# Altium integrated library Infineon_Power_Gate_Driver.IntLib: 27 symbols (part 1 of 2)
Pins are listed as number, name and electrical type; pins without a type are passive.

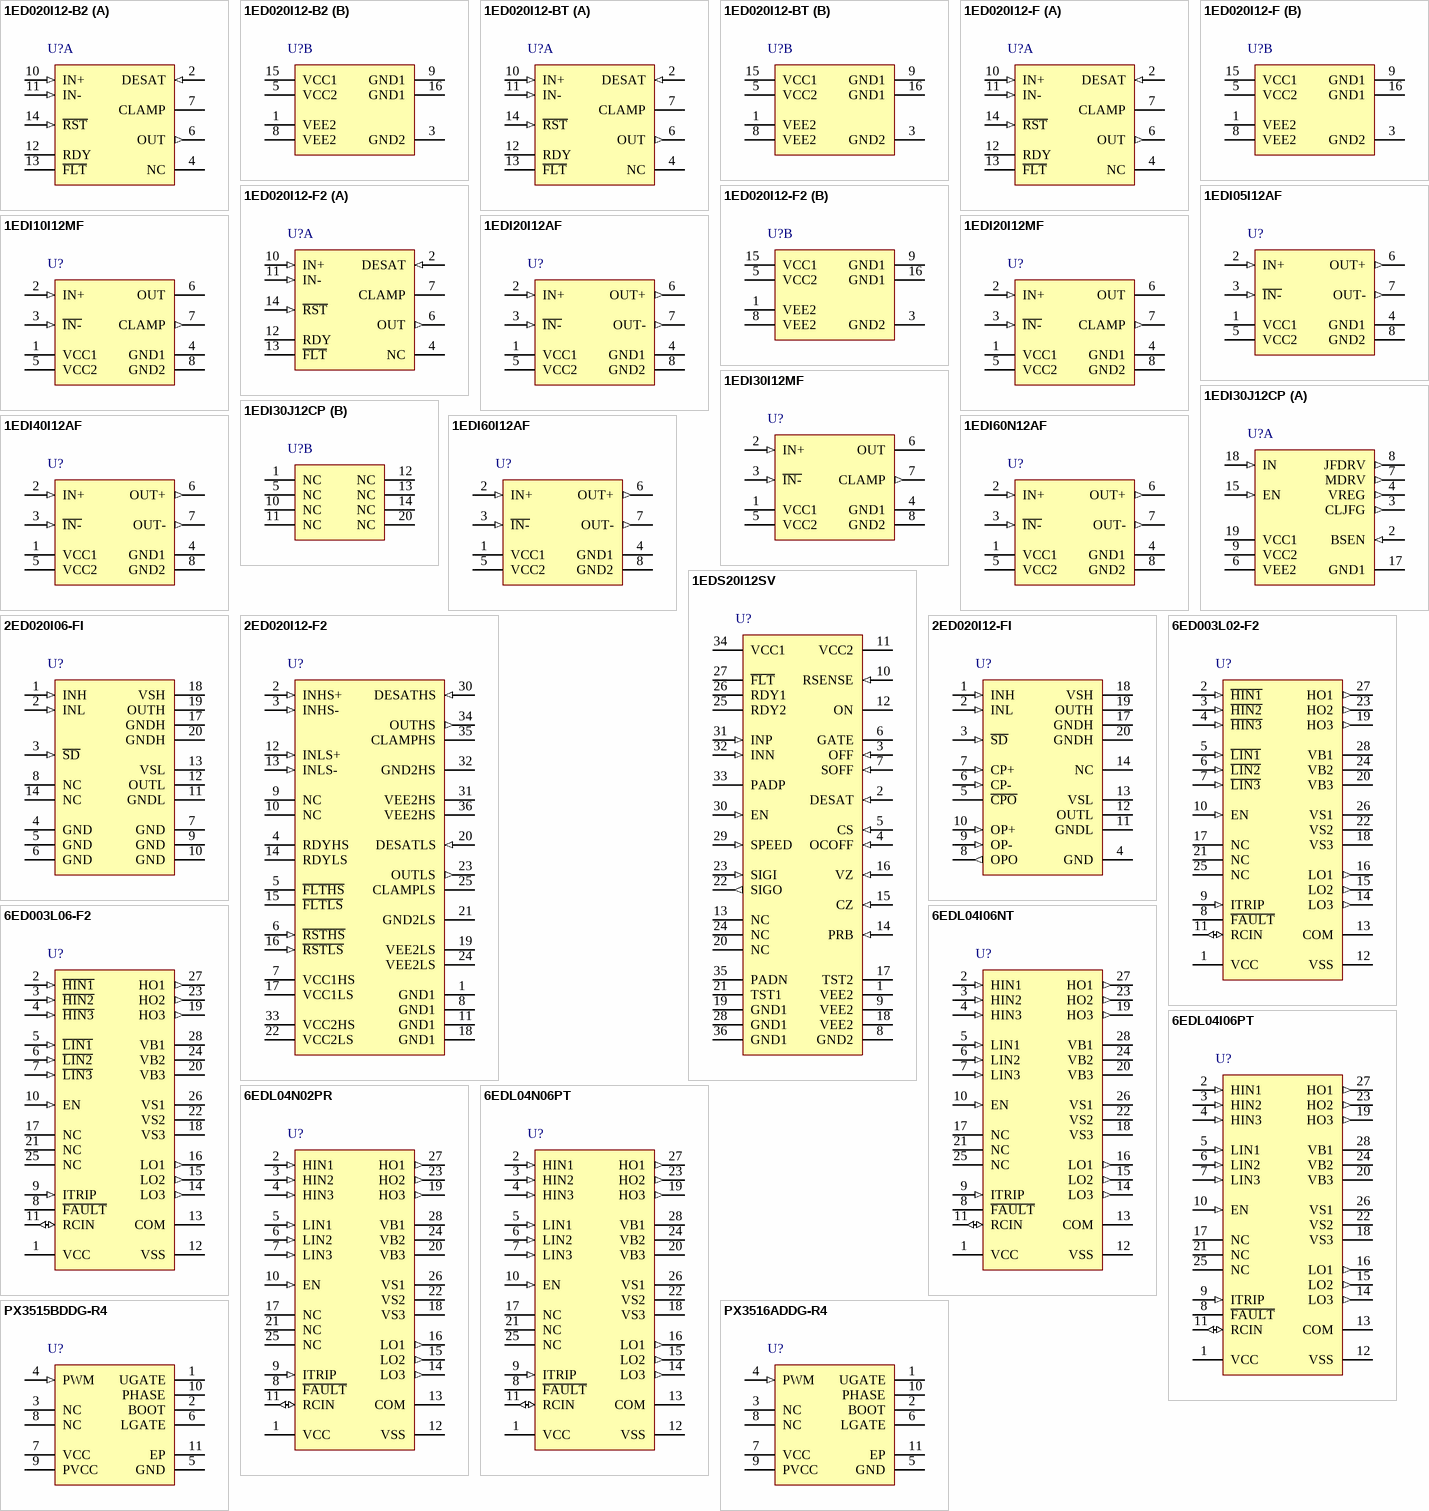
[diagram p0: symbols 1ED020I12-B2 to PX3516ADDG-R4]

## 1ED020I12-B2
designator U?
Single IGBT Driver IC, PG-DSO-16-15, Reel, Green; Manufacturer: Infineon; PartNumber: 1ED020I12-B2; Fault Reporting: DESAT; Green: TRUE; Shutdown/Enable: /RST; Tj (max): 150 degC; Turn On Propagation Delay (max): 195 ns; UVLO_ON_max: 12.6 V; DatasheetVersion: Rev. 2.0; PackageVersion: Rev. 02, 07/2012; PackageReference: PG-DSO-16-15; PackageDescription: 16-Pin Plastic (Green) Dual Small Outline Package, 10.34 x 7.505 mm Body, 1.27 mm Pitch; Supplier 1: Mouser; Supplier Part Number 1: 641-1ED020I12-B2; Halogen-free: TRUE; Topology: Single; Mounting Technology: Surface Mount; ComponentLink1Description: Manufacturer URL; ComponentLink1URL: http://www.infineon.com/; ComponentLink2Description: Datasheet; ComponentLink2URL: http://www.infineon.com/dgdl/1ED020I12-B2_DS_rev2+0.pdf?folderId=db3a30432b16d655012b33fafdac11e2&fileId=db3a304333227b5e013344bf16f84ca6; ComponentLink3Description: Package Specification; ComponentLink3URL: http://www.infineon.com/dgdl/1ED020I12-B2_DS_rev2+0.pdf?folderId=db3a30432b16d655012b33fafdac11e2&fileId=db3a304333227b5e013344bf16f84ca6
footprint INF-PG-DSO-16-15_A_N (SOP, 16-Leads, Body 10.34x7.505mm, Pitch 1.27mm, IPC Medium Density)
footprint INF-PG-DSO-16-15_A_L (SOP, 16-Leads, Body 10.34x7.505mm, Pitch 1.27mm, IPC High Density)
footprint INF-PG-DSO-16-15_A_M (SOP, 16-Leads, Body 10.34x7.505mm, Pitch 1.27mm, IPC Low Density)
part A pins: 2 DESAT (in) "Desaturation protection", 4 NC "Not connected", 6 OUT (out) "Driver output", 7 CLAMP "Miller clamping", 10 IN+ (in) "Non inverted driver input", 11 IN- (in) "Inverted driver input", 12 RDY (oc) "Ready output", 13 ~{FLT} (oc) "Fault output, low active", 14 ~{RST} (in) "Reset input, low active"
part B pins: 1 VEE2 (power) "Negative power supply output side", 3 GND2 (power) "Signal ground output side", 5 VCC2 (power) "Positive power supply output side", 8 VEE2 (power) "Negative power supply output side", 9 GND1 (power) "Ground input side", 15 VCC1 (power) "Positive power supply input side", 16 GND1 (power) "Ground input side"

## 1ED020I12-BT
designator U?
Single IGBT Driver IC, PG-DSO-16-15, Reel, Green; Manufacturer: Infineon; PartNumber: 1ED020I12-BT; Fault Reporting: DESAT; Green: TRUE; Shutdown/Enable: /RST; Tj (max): 150 degC; Turn On Propagation Delay (max): 2,000 ns; UVLO_ON_max: 12.6 V; DatasheetVersion: Rev. 2.0; PackageVersion: Rev. 02, 07/2012; PackageReference: PG-DSO-16-15; PackageDescription: 16-Pin Plastic (Green) Dual Small Outline Package, 10.34 x 7.505 mm Body, 1.27 mm Pitch; Supplier 1: Mouser; Supplier Part Number 1: 641-1ED020I12-BT; Halogen-free: TRUE; Topology: Single; Mounting Technology: Surface Mount; ComponentLink1Description: Manufacturer URL; ComponentLink1URL: http://www.infineon.com/; ComponentLink2Description: Datasheet; ComponentLink2URL: http://www.infineon.com/dgdl/1ED020I12-BT_DS_rev2+0.pdf?folderId=db3a30432b16d655012b33fafdac11e2&fileId=db3a304333227b5e013344c2ff924cbf; ComponentLink3Description: Package Specification; ComponentLink3URL: http://www.infineon.com/dgdl/1ED020I12-B2_DS_rev2+0.pdf?folderId=db3a30432b16d655012b33fafdac11e2&fileId=db3a304333227b5e013344bf16f84ca6
footprint INF-PG-DSO-16-15_A_N (SOP, 16-Leads, Body 10.34x7.505mm, Pitch 1.27mm, IPC Medium Density)
footprint INF-PG-DSO-16-15_A_L (SOP, 16-Leads, Body 10.34x7.505mm, Pitch 1.27mm, IPC High Density)
footprint INF-PG-DSO-16-15_A_M (SOP, 16-Leads, Body 10.34x7.505mm, Pitch 1.27mm, IPC Low Density)
part A pins: 2 DESAT (in) "Desaturation protection", 4 NC "Not connected", 6 OUT (out) "Driver output", 7 CLAMP "Miller clamping", 10 IN+ (in) "Non inverted driver input", 11 IN- (in) "Inverted driver input", 12 RDY (oc) "Ready output", 13 ~{FLT} (oc) "Fault output, low active", 14 ~{RST} (in) "Reset input, low active"
part B pins: 1 VEE2 (power) "Negative power supply output side", 3 GND2 (power) "Signal ground output side", 5 VCC2 (power) "Positive power supply output side", 8 VEE2 (power) "Negative power supply output side", 9 GND1 (power) "Ground input side", 15 VCC1 (power) "Positive power supply input side", 16 GND1 (power) "Ground input side"

## 1ED020I12-F
designator U?
Single IGBT Driver IC, PG-DSO-16-15, Reel, Green; Manufacturer: Infineon; PartNumber: 1ED020I12-F; Fault Reporting: DESAT; Green: TRUE; Shutdown/Enable: /RST; Tj (max): 150 degC; Turn On Propagation Delay (max): 205 ns; UVLO_ON_max: 12.6 V; DatasheetVersion: Rev. 2.3; PackageVersion: Rev. 02, 07/2012; PackageReference: PG-DSO-16-15; PackageDescription: 16-Pin Plastic (Green) Dual Small Outline Package, 10.34 x 7.505 mm Body, 1.27 mm Pitch; Halogen-free: TRUE; Topology: Single; Mounting Technology: Surface Mount; ComponentLink1Description: Manufacturer URL; ComponentLink1URL: http://www.infineon.com/; ComponentLink2Description: Datasheet; ComponentLink2URL: http://www.infineon.com/dgdl/Datasheet_1ED020I12-F_V2+3.pdf?folderId=db3a30432b16d655012b33fafdac11e2&fileId=db3a30433afc7e3e013b2c689d235c77; ComponentLink3Description: Package Specification; ComponentLink3URL: http://www.infineon.com/dgdl/1ED020I12-B2_DS_rev2+0.pdf?folderId=db3a30432b16d655012b33fafdac11e2&fileId=db3a304333227b5e013344bf16f84ca6
footprint INF-PG-DSO-16-15_A_N (SOP, 16-Leads, Body 10.34x7.505mm, Pitch 1.27mm, IPC Medium Density)
footprint INF-PG-DSO-16-15_A_L (SOP, 16-Leads, Body 10.34x7.505mm, Pitch 1.27mm, IPC High Density)
footprint INF-PG-DSO-16-15_A_M (SOP, 16-Leads, Body 10.34x7.505mm, Pitch 1.27mm, IPC Low Density)
part A pins: 2 DESAT (in) "Desaturation protection", 4 NC "Not connected", 6 OUT (out) "Driver output", 7 CLAMP "Miller clamping", 10 IN+ (in) "Non inverted driver input", 11 IN- (in) "Inverted driver input", 12 RDY (oc) "Ready output", 13 ~{FLT} (oc) "Fault output, low active", 14 ~{RST} (in) "Reset input, low active"
part B pins: 1 VEE2 (power) "Negative power supply output side", 3 GND2 (power) "Signal ground output side", 5 VCC2 (power) "Positive power supply output side", 8 VEE2 (power) "Negative power supply output side", 9 GND1 (power) "Ground input side", 15 VCC1 (power) "Positive power supply input side", 16 GND1 (power) "Ground input side"

## 1ED020I12-F2
designator U?
Single IGBT Driver IC, PG-DSO-16-15, Reel, Green; Manufacturer: Infineon; PartNumber: 1ED020I12-F2; Fault Reporting: DESAT; Green: TRUE; Shutdown/Enable: /RST; Tj (max): 150 degC; Turn On Propagation Delay (max): 195 ns; UVLO_ON_max: 12.6 V; DatasheetVersion: Rev. 2.0; PackageReference: PG-DSO-16-15; PackageDescription: 16-Pin Plastic (Green) Dual Small Outline Package, 10.34 x 7.505 mm Body, 1.27 mm Pitch; Supplier 1: Mouser; Supplier Part Number 1: 641-1ED020I12-F2; Halogen-free: TRUE; Topology: Single; Mounting Technology: Surface Mount; ComponentLink1Description: Manufacturer URL; ComponentLink1URL: http://www.infineon.com/; ComponentLink2Description: Datasheet; ComponentLink2URL: http://www.infineon.com/dgdl/Datasheet_1ED020I12-F2_V2_final.pdf?folderId=db3a30432b16d655012b33fafdac11e2&fileId=db3a304330f68606013122ce5f3649cb; ComponentLink3Description: Package Specification; ComponentLink3URL: http://www.infineon.com/cms/packages/SMD_-_Surface_Mounted_Devices/P-PG-DSO/P-PG-DSO-16-04x_-15.html?__locale=en
footprint INF-PG-DSO-16-15_N (SOP, 16-Leads, Body 10.34x7.505mm, Pitch 1.27mm, IPC Medium Density)
footprint INF-PG-DSO-16-15_L (SOP, 16-Leads, Body 10.34x7.505mm, Pitch 1.27mm, IPC High Density)
footprint INF-PG-DSO-16-15_M (SOP, 16-Leads, Body 10.34x7.505mm, Pitch 1.27mm, IPC Low Density)
part A pins: 2 DESAT (in) "Desaturation protection", 4 NC "Not connected", 6 OUT (out) "Driver output", 7 CLAMP "Miller clamping", 10 IN+ (in) "Non inverted driver input", 11 IN- (in) "Inverted driver input", 12 RDY (oc) "Ready output", 13 ~{FLT} (oc) "Fault output, low active", 14 ~{RST} (in) "Reset input, low active"
part B pins: 1 VEE2 (power) "Negative power supply output side", 3 GND2 (power) "Signal ground output side", 5 VCC2 (power) "Positive power supply output side", 8 VEE2 (power) "Negative power supply output side", 9 GND1 (power) "Ground input side", 15 VCC1 (power) "Positive power supply input side", 16 GND1 (power) "Ground input side"

## 1EDI05I12AF
designator U?
1EDI EiceDRIVER(TM) Compact Single Channel IGBT Gate Driver IC, -40 to 125 degC, PG-DSO-8, Reel, Green; Manufacturer: Infineon; PartNumber: 1EDI05I12AF; Green: TRUE; Output Current (Sink): 0.5 A; Tj (max): 150 degC; Turn On Propagation Delay (max): 330 ns; UVLO_ON_max: 12.7 V; Voltage Class: 1,200 V; DatasheetVersion: Rev. 1.00; PackageVersion: Rev. 02, 01/2008; PackageReference: PG-DSO-8-51; PackageDescription: 8-Pin Plastic (Green) Dual Small Outline Package, 4.9 x 3.9 mm Body, 1.27 mm Pitch; Halogen-free: TRUE; Output Current (Source): 0.5 A; Packing: Reel; Topology: Single; Mounting Technology: Surface Mount; ComponentLink1Description: Manufacturer URL; ComponentLink1URL: http://www.infineon.com/; ComponentLink2Description: Datasheet; ComponentLink2URL: http://www.infineon.com/dgdl/1EDIxxI12AF+%28preliminary%29.pdf?folderId=db3a30431a5c32f2011a77fa27a86cb5&fileId=db3a3043427ac3e201428e648a333734; ComponentLink3Description: Package Specification; ComponentLink3URL: http://www.infineon.com/dgdl/1EDI60N12AF+%28preliminary%29.pdf?folderId=db3a30431a5c32f2011a77fa27a86cb5&fileId=db3a3043427ac3e201428e5da08f372a
footprint INF-PG-DSO-8-51_V (SOIC, 8-Leads, Body 4.9x3.9mm, Pitch 1.27mm)
pins: 1 VCC1 (power) "Positive Logic Supply", 2 IN+ (in) "Non-Inverted Driver Input (active high)", 3 ~{IN-} (in) "Inverted Driver Input (active low)", 4 GND1 (power) "Logic Ground", 5 VCC2 (power) "Positive Power Supply Output Side", 6 OUT+ (out) "Driver Source Output", 7 OUT- (out) "Driver Sink Output", 8 GND2 (power) "Power Ground"

## 1EDI10I12MF
designator U?
1EDI EiceDRIVER(TM) Compact Single Channel IGBT Gate Driver IC, -40 to 150 degC, PG-DSO-8, Reel, Green; Manufacturer: Infineon; PartNumber: 1EDI10I12MF; Green: TRUE; Output Current (Sink): 1 A; Turn On Propagation Delay (max): 330 ns; UVLO_ON_max: 12.7 V; Voltage Class: 1,200 V; DatasheetVersion: Rev. 1.00; PackageVersion: Rev. 02, 01/2008; PackageReference: PG-DSO-8-51; PackageDescription: 8-Pin Plastic (Green) Dual Small Outline Package, 4.9 x 3.9 mm Body, 1.27 mm Pitch; Halogen-free: TRUE; Output Current (Source): 1 A; Packing: Reel; Tj (max): 150 degC; Topology: Single; Mounting Technology: Surface Mount; ComponentLink1Description: Manufacturer URL; ComponentLink1URL: http://www.infineon.com/; ComponentLink2Description: Datasheet; ComponentLink2URL: http://www.infineon.com/dgdl/Infineon-1EDIxxI12MF-DS-v1.0_en.pdf?folderId=db3a30431a5c32f2011a77fa27a86cb5&fileId=5546d46145f1f3a401462944e0190fd7; ComponentLink3Description: Package Specification; ComponentLink3URL: http://www.infineon.com/dgdl/1EDI60N12AF+%28preliminary%29.pdf?folderId=db3a30431a5c32f2011a77fa27a86cb5&fileId=db3a3043427ac3e201428e5da08f372a
footprint INF-PG-DSO-8-51_V (SOIC, 8-Leads, Body 4.9x3.9mm, Pitch 1.27mm)
pins: 1 VCC1 (power) "Positive Logic Supply", 2 IN+ (in) "Non-Inverted Driver Input (active high)", 3 ~{IN-} (in) "Inverted Driver Input (active low)", 4 GND1 (power) "Logic Ground", 5 VCC2 (power) "Positive Power Supply Output Side", 6 OUT (power) "Driver Output", 7 CLAMP (out) "Active Miller Clamp", 8 GND2 (power) "Power Ground"

## 1EDI20I12AF
designator U?
1EDI EiceDRIVER(TM) Compact Single Channel IGBT Gate Driver IC, -40 to 125 degC, PG-DSO-8, Reel, Green; Manufacturer: Infineon; PartNumber: 1EDI20I12AF; Green: TRUE; Output Current (Sink): 2 A; Tj (max): 150 degC; Turn On Propagation Delay (max): 330 ns; UVLO_ON_max: 12.7 V; Voltage Class: 1,200 V; DatasheetVersion: Rev. 1.00; PackageVersion: Rev. 02, 01/2008; PackageReference: PG-DSO-8-51; PackageDescription: 8-Pin Plastic (Green) Dual Small Outline Package, 4.9 x 3.9 mm Body, 1.27 mm Pitch; Halogen-free: TRUE; Output Current (Source): 2 A; Packing: Reel; Topology: Single; Mounting Technology: Surface Mount; ComponentLink1Description: Manufacturer URL; ComponentLink1URL: http://www.infineon.com/; ComponentLink2Description: Datasheet; ComponentLink2URL: http://www.infineon.com/dgdl/1EDIxxI12AF+%28preliminary%29.pdf?folderId=db3a30431a5c32f2011a77fa27a86cb5&fileId=db3a3043427ac3e201428e648a333734; ComponentLink3Description: Package Specification; ComponentLink3URL: http://www.infineon.com/dgdl/1EDI60N12AF+%28preliminary%29.pdf?folderId=db3a30431a5c32f2011a77fa27a86cb5&fileId=db3a3043427ac3e201428e5da08f372a
footprint INF-PG-DSO-8-51_V (SOIC, 8-Leads, Body 4.9x3.9mm, Pitch 1.27mm)
pins: 1 VCC1 (power) "Positive Logic Supply", 2 IN+ (in) "Non-Inverted Driver Input (active high)", 3 ~{IN-} (in) "Inverted Driver Input (active low)", 4 GND1 (power) "Logic Ground", 5 VCC2 (power) "Positive Power Supply Output Side", 6 OUT+ (out) "Driver Source Output", 7 OUT- (out) "Driver Sink Output", 8 GND2 (power) "Power Ground"

## 1EDI20I12MF
designator U?
1EDI EiceDRIVER(TM) Compact Single Channel IGBT Gate Driver IC, -40 to 150 degC, PG-DSO-8, Reel, Green; Manufacturer: Infineon; PartNumber: 1EDI20I12MF; Green: TRUE; Output Current (Sink): 2 A; Turn On Propagation Delay (max): 330 ns; UVLO_ON_max: 12.7 V; Voltage Class: 1,200 V; DatasheetVersion: Rev. 1.00; PackageVersion: Rev. 02, 01/2008; PackageReference: PG-DSO-8-51; PackageDescription: 8-Pin Plastic (Green) Dual Small Outline Package, 4.9 x 3.9 mm Body, 1.27 mm Pitch; Halogen-free: TRUE; Output Current (Source): 2 A; Packing: Reel; Tj (max): 150 degC; Topology: Single; Mounting Technology: Surface Mount; ComponentLink1Description: Manufacturer URL; ComponentLink1URL: http://www.infineon.com/; ComponentLink2Description: Datasheet; ComponentLink2URL: http://www.infineon.com/dgdl/Infineon-1EDIxxI12MF-DS-v1.0_en.pdf?folderId=db3a30431a5c32f2011a77fa27a86cb5&fileId=5546d46145f1f3a401462944e0190fd7; ComponentLink3Description: Package Specification; ComponentLink3URL: http://www.infineon.com/dgdl/1EDI60N12AF+%28preliminary%29.pdf?folderId=db3a30431a5c32f2011a77fa27a86cb5&fileId=db3a3043427ac3e201428e5da08f372a
footprint INF-PG-DSO-8-51_V (SOIC, 8-Leads, Body 4.9x3.9mm, Pitch 1.27mm)
pins: 1 VCC1 (power) "Positive Logic Supply", 2 IN+ (in) "Non-Inverted Driver Input (active high)", 3 ~{IN-} (in) "Inverted Driver Input (active low)", 4 GND1 (power) "Logic Ground", 5 VCC2 (power) "Positive Power Supply Output Side", 6 OUT (power) "Driver Output", 7 CLAMP (out) "Active Miller Clamp", 8 GND2 (power) "Power Ground"

## 1EDI30I12MF
designator U?
1EDI EiceDRIVER(TM) Compact Single Channel IGBT Gate Driver IC, -40 to 150 degC, PG-DSO-8, Reel, Green; Manufacturer: Infineon; PartNumber: 1EDI30I12MF; Green: TRUE; Output Current (Sink): 3 A; Turn On Propagation Delay (max): 330 ns; UVLO_ON_max: 12.7 V; Voltage Class: 1,200 V; DatasheetVersion: Rev. 1.00; PackageVersion: Rev. 02, 01/2008; PackageReference: PG-DSO-8-51; PackageDescription: 8-Pin Plastic (Green) Dual Small Outline Package, 4.9 x 3.9 mm Body, 1.27 mm Pitch; Halogen-free: TRUE; Output Current (Source): 3 A; Packing: Reel; Tj (max): 150 degC; Topology: Single; Mounting Technology: Surface Mount; ComponentLink1Description: Manufacturer URL; ComponentLink1URL: http://www.infineon.com/; ComponentLink2Description: Datasheet; ComponentLink2URL: http://www.infineon.com/dgdl/Infineon-1EDIxxI12MF-DS-v1.0_en.pdf?folderId=db3a30431a5c32f2011a77fa27a86cb5&fileId=5546d46145f1f3a401462944e0190fd7; ComponentLink3Description: Package Specification; ComponentLink3URL: http://www.infineon.com/dgdl/1EDI60N12AF+%28preliminary%29.pdf?folderId=db3a30431a5c32f2011a77fa27a86cb5&fileId=db3a3043427ac3e201428e5da08f372a
footprint INF-PG-DSO-8-51_V (SOIC, 8-Leads, Body 4.9x3.9mm, Pitch 1.27mm)
pins: 1 VCC1 (power) "Positive Logic Supply", 2 IN+ (in) "Non-Inverted Driver Input (active high)", 3 ~{IN-} (in) "Inverted Driver Input (active low)", 4 GND1 (power) "Logic Ground", 5 VCC2 (power) "Positive Power Supply Output Side", 6 OUT (power) "Driver Output", 7 CLAMP (out) "Active Miller Clamp", 8 GND2 (power) "Power Ground"

## 1EDI30J12CP
designator U?
Single JFET Driver IC, -40 to 150 degC, PG-DSO-19-4, Reel, Green; Manufacturer: Infineon; PartNumber: 1EDI30J12CP; Green: TRUE; Output Current (Sink): 4 A; Turn On Propagation Delay (max): 106 ns; Voltage Class: 1,200 V; DatasheetVersion: Rev. 1.0; PackageVersion: Rev. 02, 04/2011; PackageReference: PG-DSO-19-4; PackageDescription: 19-Pin Plastic (Green) Dual Small Outline Package, 12.8 x 7.5 mm Body, 1.27 mm Pitch; Supplier 1: Mouser; Supplier Part Number 1: 641-1EDI30J12CP; Halogen-free: TRUE; Output Current (Source): 4 A; Packing: Reel; Topology: Single; Mounting Technology: Surface Mount; ComponentLink1Description: Manufacturer URL; ComponentLink1URL: http://www.infineon.com/; ComponentLink2Description: Datasheet; ComponentLink2URL: http://www.infineon.com/dgdl/1EDI30J12CP_V1.0_preliminaryDS.PDF?folderId=db3a30432b16d655012b33fafdac11e2&fileId=db3a30433e0d3017013e117ce6090950; ComponentLink3Description: Package Specification; ComponentLink3URL: http://www.infineon.com/dgdl/1EDI30J12CP_V1.0_preliminaryDS.PDF?folderId=db3a30432b16d655012b33fafdac11e2&fileId=db3a30433e0d3017013e117ce6090950
footprint INF-PG-DSO-19-4_N (SOP, 19-Leads, Body 12.8x7.5mm, Pitch 1.27mm, IPC Medium Density)
footprint INF-PG-DSO-19-4_L (SOP, 19-Leads, Body 12.8x7.5mm, Pitch 1.27mm, IPC High Density)
footprint INF-PG-DSO-19-4_M (SOP, 19-Leads, Body 12.8x7.5mm, Pitch 1.27mm, IPC Low Density)
part A pins: 2 BSEN (in) "Bootstrap Enable For bootstrap operation connect this pin to VCC2, for non bootstrap operation to VREG", 3 CLJFG (out) "Clamp of JFET Gate CLJFG is the clamp of the JFET gate, connect to p-channel MOSFET drain to ensure self turn off of the JFET during start up", 4 VREG (out) "Voltage Regulator Output VREG is the output of the integrated linear regulator and the negative power supply for the gate  drivers", 6 VEE2 (power) "Negative Power Supply Output Side VEE2 is the input of the integrated linear regulator", 7 MDRV (out) "MOSFET Driver Output", 8 JFDRV (out) "JFET Driver Output", 9 VCC2 (power) "Positive Power Supply Output Side VCC2 is the positive supply input of the JFET driver and MOSFET driver, connected to the  sources of the JFET and the MOSFET", 15 EN (in) "Driver Enable", 17 GND1 (power) "Signal Ground Input Side", 18 IN (in) "Driver Input", 19 VCC1 (power) "Positive Supply Input Side"
part B pins: 1 NC "Internally not connected", 5 NC "Internally not connected", 10 NC "Internally not connected", 11 NC "Internally not connected", 12 NC "Internally not connected", 13 NC "Internally not connected", 14 NC "Internally not connected", 20 NC "Internally not connected"

## 1EDI40I12AF
designator U?
1EDI EiceDRIVER(TM) Compact Single Channel IGBT Gate Driver IC, -40 to 125 degC, PG-DSO-8, Reel, Green; Manufacturer: Infineon; PartNumber: 1EDI40I12AF; Green: TRUE; Output Current (Sink): 4 A; Tj (max): 150 degC; Turn On Propagation Delay (max): 330 ns; UVLO_ON_max: 12.7 V; Voltage Class: 1,200 V; DatasheetVersion: Rev. 1.00; PackageVersion: Rev. 02, 01/2008; PackageReference: PG-DSO-8-51; PackageDescription: 8-Pin Plastic (Green) Dual Small Outline Package, 4.9 x 3.9 mm Body, 1.27 mm Pitch; Halogen-free: TRUE; Output Current (Source): 4 A; Packing: Reel; Topology: Single; Mounting Technology: Surface Mount; ComponentLink1Description: Manufacturer URL; ComponentLink1URL: http://www.infineon.com/; ComponentLink2Description: Datasheet; ComponentLink2URL: http://www.infineon.com/dgdl/1EDIxxI12AF+%28preliminary%29.pdf?folderId=db3a30431a5c32f2011a77fa27a86cb5&fileId=db3a3043427ac3e201428e648a333734; ComponentLink3Description: Package Specification; ComponentLink3URL: http://www.infineon.com/dgdl/1EDI60N12AF+%28preliminary%29.pdf?folderId=db3a30431a5c32f2011a77fa27a86cb5&fileId=db3a3043427ac3e201428e5da08f372a
footprint INF-PG-DSO-8-51_V (SOIC, 8-Leads, Body 4.9x3.9mm, Pitch 1.27mm)
pins: 1 VCC1 (power) "Positive Logic Supply", 2 IN+ (in) "Non-Inverted Driver Input (active high)", 3 ~{IN-} (in) "Inverted Driver Input (active low)", 4 GND1 (power) "Logic Ground", 5 VCC2 (power) "Positive Power Supply Output Side", 6 OUT+ (out) "Driver Source Output", 7 OUT- (out) "Driver Sink Output", 8 GND2 (power) "Power Ground"

## 1EDI60I12AF
designator U?
1EDI EiceDRIVER(TM) Compact Single Channel IGBT Gate Driver IC, -40 to 125 degC, PG-DSO-8, Reel, Green; Manufacturer: Infineon; PartNumber: 1EDI60I12AF; Green: TRUE; Output Current (Sink): 6 A; Tj (max): 150 degC; Turn On Propagation Delay (max): 330 ns; UVLO_ON_max: 12.7 V; Voltage Class: 1,200 V; DatasheetVersion: Rev. 1.00; PackageVersion: Rev. 02, 01/2008; PackageReference: PG-DSO-8-51; PackageDescription: 8-Pin Plastic (Green) Dual Small Outline Package, 4.9 x 3.9 mm Body, 1.27 mm Pitch; Halogen-free: TRUE; Output Current (Source): 6 A; Packing: Reel; Topology: Single; Mounting Technology: Surface Mount; ComponentLink1Description: Manufacturer URL; ComponentLink1URL: http://www.infineon.com/; ComponentLink2Description: Datasheet; ComponentLink2URL: http://www.infineon.com/dgdl/1EDIxxI12AF+%28preliminary%29.pdf?folderId=db3a30431a5c32f2011a77fa27a86cb5&fileId=db3a3043427ac3e201428e648a333734; ComponentLink3Description: Package Specification; ComponentLink3URL: http://www.infineon.com/dgdl/1EDI60N12AF+%28preliminary%29.pdf?folderId=db3a30431a5c32f2011a77fa27a86cb5&fileId=db3a3043427ac3e201428e5da08f372a
footprint INF-PG-DSO-8-51_V (SOIC, 8-Leads, Body 4.9x3.9mm, Pitch 1.27mm)
pins: 1 VCC1 (power) "Positive Logic Supply", 2 IN+ (in) "Non-Inverted Driver Input (active high)", 3 ~{IN-} (in) "Inverted Driver Input (active low)", 4 GND1 (power) "Logic Ground", 5 VCC2 (power) "Positive Power Supply Output Side", 6 OUT+ (out) "Driver Source Output", 7 OUT- (out) "Driver Sink Output", 8 GND2 (power) "Power Ground"

## 1EDI60N12AF
designator U?
1EDI EiceDRIVER(TM) Compact Single Channel MOSFET Gate Driver IC, -40 to 125 degC, PG-DSO-8, Reel, Green; Manufacturer: Infineon; PartNumber: 1EDI60N12AF; Green: TRUE; Output Current (Sink): 6 A; Tj (max): 150 degC; Turn On Propagation Delay (max): 130 ns; UVLO_ON_max: 10 V; Voltage Class: 1,200 V; DatasheetVersion: Rev. 1.00; PackageVersion: Rev. 02, 01/2008; PackageReference: PG-DSO-8-51; PackageDescription: 8-Pin Plastic (Green) Dual Small Outline Package, 4.9 x 3.9 mm Body, 1.27 mm Pitch; Supplier 1: Mouser; Supplier Part Number 1: 726-1EDI60N12AF; Halogen-free: TRUE; Output Current (Source): 6 A; Packing: Reel; Topology: Single; Mounting Technology: Surface Mount; ComponentLink1Description: Manufacturer URL; ComponentLink1URL: http://www.infineon.com/; ComponentLink2Description: Datasheet; ComponentLink2URL: http://www.infineon.com/dgdl/1EDI60N12AF+%28preliminary%29.pdf?folderId=db3a30431a5c32f2011a77fa27a86cb5&fileId=db3a3043427ac3e201428e5da08f372a; ComponentLink3Description: Package Specification; ComponentLink3URL: http://www.infineon.com/dgdl/1EDI60N12AF+%28preliminary%29.pdf?folderId=db3a30431a5c32f2011a77fa27a86cb5&fileId=db3a3043427ac3e201428e5da08f372a
footprint INF-PG-DSO-8-51_V (SOIC, 8-Leads, Body 4.9x3.9mm, Pitch 1.27mm)
pins: 1 VCC1 (power) "Positive Logic Supply", 2 IN+ (in) "Non-Inverted Driver Input (active high)", 3 ~{IN-} (in) "Inverted Driver Input (active low)", 4 GND1 (power) "Logic Ground", 5 VCC2 (power) "Positive Power Supply Output Side", 6 OUT+ (out) "Driver Source Output", 7 OUT- (out) "Driver Sink Output", 8 GND2 (power) "Power Ground"

## 1EDS20I12SV
designator U?
Real-Time Adjustable Gate Current Control IC, -40 to 105 degC, PG-DSO-36, Reel, Green; Manufacturer: Infineon; PartNumber: 1EDS20I12SV; Channels: 1; Green: TRUE; Io+/-: 2,000 mA; Topology: Single; DatasheetVersion: Rev. 0.73; PackageVersion: Rev. 02, 05/2014; PackageReference: PG-DSO-36; PackageDescription: 36-Pin Plastic (Green) Dual Small Outline Package, 12.8 x 7.5 mm Body, 0.65 mm Pitch; Supplier 1: Mouser; Supplier Part Number 1: N/A; Halogen-free: TRUE; Packing: Reel; Technology: Transformer; Mounting Technology: Surface Mount; ComponentLink1Description: Manufacturer URL; ComponentLink1URL: http://www.infineon.com/; ComponentLink2Description: Datasheet; ComponentLink2URL: http://www.infineon.com/dgdl/Infineon-1EDS20I12SV-DS-v0_73-en.pdf?folderId=db3a30431a5c32f2011a77fa27a86cb5&fileId=5546d46145f1f3a40145faf0aa200fc1; ComponentLink3Description: Package Specification; ComponentLink3URL: http://www.infineon.com/dgdl/Infineon-1EDS20I12SV-DS-v0_73-en.pdf?folderId=db3a30431a5c32f2011a77fa27a86cb5&fileId=5546d46145f1f3a40145faf0aa200fc1
footprint INF-PG-DSO-36_N (SOP, 36-Leads, Body 13x7.6mm, Pitch 0.65mm, IPC Medium Density)
footprint INF-PG-DSO-36_L (SOP, 36-Leads, Body 13x7.6mm, Pitch 0.65mm, IPC High Density)
footprint INF-PG-DSO-36_M (SOP, 36-Leads, Body 13x7.6mm, Pitch 0.65mm, IPC Low Density)
pins: 1 VEE2 (power) "Negative power supply, output side", 2 DESAT (in) "Desaturation shut down protection", 3 OFF (in) "Gate turn-off", 4 OCOFF (in) "Overcurrent protection on/off", 5 CS (in) "Sense IGBT overcurrent", 6 GATE "IGBT gate connection", 7 SOFF (in) "Gate soft turn-off", 8 GND2 (power) "Signal ground, output side", 9 VEE2 (power) "Negative power supply, output side", 10 RSENSE (in) "Sense resistor input", 11 VCC2 (power) "Positive power supply, output side", 12 ON (power) "Driver output ON terminal, MOSFET connection", 13 NC "Not connected, GND2 recommended", 14 PRB (in) "Preboost current adjust", 15 CZ (in) "Two-level turn-off time set", 16 VZ (in) "Two-level turn-off voltage set", 17 TST2 "Reserved terminal, to be connected to VEE2 during operation", 18 VEE2 (power) "Negative power supply, output side", 19 GND1 (power) "Ground, input side", 20 NC "Not connected", 21 TST1 "Reserved terminal, to be connected to GND1 during operation", 22 SIGO (out) "Signature test output", 23 SIGI (in) "Signature test input", 24 NC "Not connected, GND1 recommended", 25 RDY2 (oc) "Ready signal, output side", 26 RDY1 (oc) "Ready signal, input side", 27 ~{FLT} (oc) "Fault output", 28 GND1 (power) "Ground, input side", 29 SPEED (in) "IGBT gate current setting (analog)", 30 EN (in) "Enable, shutdown, and fault reset input", 31 INP (in) "Inverted driver input", 32 INN (in) "Non-inverted driver input", 33 PADP (power) "Input side logic reference voltage", 34 VCC1 (power) "Positive power supply, input side", 35 PADN (power) "Input side logic reference ground", 36 GND1 (power) "Ground, input side"

## 2ED020I06-FI
designator U?
Dual IGBT Driver IC, PG-DSO-18-2, Reel, Green; Manufacturer: Infineon; PartNumber: 2ED020I06-FI; Green: TRUE; Tj (max): 150 degC; Topology: Half Bridge; Turn On Propagation Delay (max): 105 ns; UVLO_ON_max: 13.5 V; PackageVersion: Mar-09; PackageReference: PG-DSO-18-2; PackageDescription: 18-Pin Plastic (Green) Dual Small Outline Package, 12.7 x 7.5 mm Body, 1.27 mm Pitch; Supplier 1: Mouser; Supplier Part Number 1: 726-2ED020I06-FI; Halogen-free: TRUE; Mounting Technology: Surface Mount; ComponentLink1Description: Manufacturer URL; ComponentLink1URL: http://www.infineon.com/; ComponentLink2Description: Datasheet; ComponentLink2URL: http://www.infineon.com/dgdl/Datasheet_2ED020I06-FI_V2_0.pdf?folderId=db3a30431a5c32f2011a77fa27a86cb5&fileId=db3a304327b897500128204b496f457e; ComponentLink3Description: Package Specification; ComponentLink3URL: http://www.infineon.com/dgdl/PrelimDatasheet-ICB1FL03G-1V02.pdf?folderId=db3a30431f848401011f89d0a1e2089a&fileId=db3a30432239cccd0122bb5cd72846d3&location=en.Products.LED_Drivers___Lighting_ICs.Smart_Ballast_Control_ICs_for_Fluorescent_Lamp_Ballasts.ICB1FL03G.DATASHEET.PrelimDatasheet-ICB1FL03G-1V02.pdf
footprint INF-PG-DSO-18-2_N (SOP, 18-Leads, Body 12.7x7.5mm, Pitch 1.27mm, IPC Medium Density)
footprint INF-PG-DSO-18-2_L (SOP, 18-Leads, Body 12.7x7.5mm, Pitch 1.27mm, IPC High Density)
footprint INF-PG-DSO-18-2_M (SOP, 18-Leads, Body 12.7x7.5mm, Pitch 1.27mm, IPC Low Density)
pins: 1 INH (in) "Logic input for high side driver", 2 INL (in) "Logic input for low side driver", 3 ~{SD} (in) "Logic input for shutdown of both drivers", 4 GND (power) "Common ground", 5 GND (power) "Connect to GND", 6 GND (power) "Connect to GND", 7 GND (power) "Connect to GND", 8 NC "Do not connect, Pin must stay open", 9 GND (power) "Connect to GND", 10 GND (power) "Connect to GND", 11 GNDL (power) "Low side power ground", 12 OUTL (power) "Low side gate driver output", 13 VSL (power) "Low side supply voltage", 14 NC "(not connected)", 17 GNDH (power) "High side (power) ground", 18 VSH (power) "High side supply voltage", 19 OUTH (power) "High side gate driver output", 20 GNDH (power) "High side (power) ground"

## 2ED020I12-F2
designator U?
Dual IGBT Driver IC, PG-DSO-36-58, Reel, Green; Manufacturer: Infineon; PartNumber: 2ED020I12-F2; Fault Reporting: DESAT; Green: TRUE; Shutdown/Enable: /RST; Tj (max): 150 degC; Turn On Propagation Delay (max): 195 ns; UVLO_ON_max: 12.6 V; DatasheetVersion: Rev. 2.0; PackageVersion: Rev. 02, 03/2011; PackageReference: PG-DSO-36-58; PackageDescription: 36-Pin Plastic (Green) Dual Small Outline Package, 12.7 x 7.5 mm Body, 0.65 mm Ptich; Supplier 1: Mouser; Supplier Part Number 1: 641-2ED020I12-F2; Halogen-free: TRUE; Topology: Dual; Mounting Technology: Surface Mount; ComponentLink1Description: Manufacturer URL; ComponentLink1URL: http://www.infineon.com/; ComponentLink2Description: Datasheet; ComponentLink2URL: http://www.infineon.com/dgdl/2ED020I12-F2_DS_rev2+0.pdf?folderId=db3a30432b16d655012b33fafdac11e2&fileId=db3a304333227b5e013344c70fc64cc8; ComponentLink3Description: Package Specification; ComponentLink3URL: http://www.infineon.com/dgdl/2ED020I12-F2_DS_rev2+0.pdf?folderId=db3a30432b16d655012b33fafdac11e2&fileId=db3a304333227b5e013344c70fc64cc8
footprint INF-PG-DSO-36-58_N (SOP, 32-Leads, Body 12.7x7.5mm, Pitch 0.65mm, IPC Medium Density)
footprint INF-PG-DSO-36-58_L (SOP, 32-Leads, Body 12.7x7.5mm, Pitch 0.65mm, IPC High Density)
footprint INF-PG-DSO-36-58_M (SOP, 32-Leads, Body 12.7x7.5mm, Pitch 0.65mm, IPC Low Density)
pins: 1 GND1 (power) "Common ground input side", 2 INHS+ (in) "Non inverted driver input high side", 3 INHS- (in) "Inverted driver input high side", 4 RDYHS (oc) "Ready output high side", 5 ~{FLTHS} (oc) "Inverted fault output high side", 6 ~{RSTHS} (in) "Inverted reset input high side", 7 VCC1HS (power) "Positive power supply input high side", 8 GND1 (power) "Common ground input side", 9 NC "Not used, internally connected to Pin 10", 10 NC "Not used, internally connected to Pin 9", 11 GND1 (power) "Common ground input side", 12 INLS+ (in) "Non inverted driver input low side", 13 INLS- (in) "Inverted driver input lowside", 14 RDYLS (oc) "Ready output low side", 15 ~{FLTLS} (oc) "Inverted fault output low side", 16 ~{RSTLS} (in) "Inverted reset input low side", 17 VCC1LS (power) "Positive power supply input low side", 18 GND1 (power) "Common ground input side", 19 VEE2LS (power) "Negative power supply low side driver", 20 DESATLS (in) "Desaturation protection low side driver", 21 GND2LS (power) "Signal ground low side driver", 22 VCC2LS (power) "Power supply low side driver", 23 OUTLS (out) "Output low side driver", 24 VEE2LS (power) "Negative power supply low side driver", 25 CLAMPLS "Miller clamping low side driver", 30 DESATHS (in) "Desaturation protection high side driver", 31 VEE2HS (power) "Negative power supply high side driver", 32 GND2HS (power) "Signal ground high side driver", 33 VCC2HS (power) "Power supply high side driver", 34 OUTHS (out) "Output high side driver", 35 CLAMPHS "Miller clamping high side driver", 36 VEE2HS (power) "Negative power supply high side driver"

## 2ED020I12-FI
designator U?
Dual IGBT Driver IC, PG-DSO-18-2, Reel, Green; Manufacturer: Infineon; PartNumber: 2ED020I12-FI; Fault Reporting: DESAT; Green: TRUE; Shutdown/Enable: /SD; Tj (max): 150 degC; Topology: Half Bridge; Turn On Propagation Delay (max): 105 ns; UVLO_ON_max: 13.5 V; PackageVersion: Mar-09; PackageReference: PG-DSO-18-2; PackageDescription: 18-Pin Plastic (Green) Dual Small Outline Package, 12.7 x 7.5 mm Body, 1.27 mm Pitch; Supplier 1: Mouser; Supplier Part Number 1: 641-2ED020I12-FI; Supplier 2: Newark; Supplier Part Number 2: 22T8392; Supplier 3: Farnell; Supplier Part Number 3: 1854232; Supplier 4: Farnell; Supplier Part Number 4: 1854232RL; Supplier 5: Digi-Key; Supplier Part Number 5: 2ED020I12-FITR-ND; Supplier 6: Digi-Key; Supplier Part Number 6: 2ED020I12-FICT-ND; Supplier 7: Digi-Key; Supplier Part Number 7: 2ED020I12-FIDKR-ND; Halogen-free: TRUE; Mounting Technology: Surface Mount; ComponentLink1Description: Manufacturer URL; ComponentLink1URL: http://www.infineon.com/; ComponentLink2Description: Datasheet; ComponentLink2URL: http://www.infineon.com/dgdl/Datasheet_2ED020I12_FI_V1+0.pdf?folderId=db3a304412b407950112b408e8c90004&fileId=db3a304412b407950112b40959d401de; ComponentLink3Description: Package Specification; ComponentLink3URL: http://www.infineon.com/dgdl/PrelimDatasheet-ICB1FL03G-1V02.pdf?folderId=db3a30431f848401011f89d0a1e2089a&fileId=db3a30432239cccd0122bb5cd72846d3&location=en.Products.LED_Drivers___Lighting_ICs.Smart_Ballast_Control_ICs_for_Fluorescent_Lamp_Ballasts.ICB1FL03G.DATASHEET.PrelimDatasheet-ICB1FL03G-1V02.pdf
footprint INF-PG-DSO-18-2_N (SOP, 18-Leads, Body 12.7x7.5mm, Pitch 1.27mm, IPC Medium Density)
footprint INF-PG-DSO-18-2_L (SOP, 18-Leads, Body 12.7x7.5mm, Pitch 1.27mm, IPC High Density)
footprint INF-PG-DSO-18-2_M (SOP, 18-Leads, Body 12.7x7.5mm, Pitch 1.27mm, IPC Low Density)
pins: 1 INH (in) "Logic input for high side driver", 2 INL (in) "Logic input for low side driver", 3 ~{SD} (in) "Logic input for shutdown of both drivers", 4 GND (power) "Common ground", 5 ~{CPO} (oc) "Open collector output of general purpose comparator", 6 CP- (in) "Inverting input of general purpose comparator", 7 CP+ (in) "Non-inverting input of general purpose comparator", 8 OPO (out) "Output of general purpose OP", 9 OP- (in) "Inverting input of general purpose OP", 10 OP+ (in) "Non-inverting input of general purpose OP", 11 GNDL (power) "Low side power ground", 12 OUTL (power) "Low side gate driver output", 13 VSL (power) "Low side supply voltage", 14 NC "(not connected)", 17 GNDH (power) "High side (power) ground", 18 VSH (power) "High side supply voltage", 19 OUTH (power) "High side gate driver output", 20 GNDH (power) "High side (power) ground"

## 6ED003L02-F2
designator U?
3 Phase 600 V Gate Drive IC, PG-TSSOP-28-1, Reel, Green; Manufacturer: Infineon; PartNumber: 6ED003L02-F2; Fault Reporting: ITRIP; Green: TRUE; Shutdown/Enable: EN; Tj (max): 125 degC; Topology: 3-Phase; Turn On Propagation Delay (max): 800 ns; UVLO_ON_max: 12.5 V; DatasheetVersion: Rev. 2.5; PackageVersion: V1.4, 10/2011; PackageReference: PG-TSSOP-28-1; PackageDescription: 28-Pin Plastic (Green) Thin Shrink Small Outline Package, Body 9.7 x 4.4 mm, Pitch 0.65 mm; Supplier 1: Mouser; Supplier Part Number 1: N/A; Halogen-free: TRUE; Mounting Technology: Surface Mount; ComponentLink1Description: Manufacturer URL; ComponentLink1URL: http://www.infineon.com/; ComponentLink2Description: Datasheet; ComponentLink2URL: http://www.infineon.com/dgdl/6ED-F2-DB-Rev2_5.pdf?folderId=db3a30431a5c32f2011a77fa27a86cb5&fileId=db3a3043315daf4401316108306d4190; ComponentLink3Description: Package Specification; ComponentLink3URL: http://www.infineon.com/dgdl/XC835_XC836_ds_v1.4.pdf?folderId=db3a304412b407950112b40c497b0af6&fileId=db3a30432ba3fa6f012baa1500492fd3&sId=db3a30433d956bc3013da0b5e6e22d1b
footprint INF-PG-TSSOP-28-1_N (SOP, 28-Leads, Body 9.7x4.4mm, Pitch 0.65mm, IPC Medium Density)
footprint INF-PG-TSSOP-28-1_L (SOP, 28-Leads, Body 9.7x4.4mm, Pitch 0.65mm, IPC High Density)
footprint INF-PG-TSSOP-28-1_M (SOP, 28-Leads, Body 9.7x4.4mm, Pitch 0.65mm, IPC Low Density)
pins: 1 VCC (power) "Low side power supply", 2 ~{HIN1} (in) "High side logic input", 3 ~{HIN2} (in) "High side logic input", 4 ~{HIN3} (in) "High side logic input", 5 ~{LIN1} (in) "Low side logic input", 6 ~{LIN2} (in) "Low side logic input", 7 ~{LIN3} (in) "Low side logic input", 8 ~{FAULT} (hiz) "Indicates over-current and under-voltage (negative logic, open-drain output)", 9 ITRIP (in) "Analog input for over-current shut down, activates FAULT and RCIN to VSS", 10 EN (in) "Enable I/O functionality (positive logic)", 11 RCIN (io) "External RC-network to define FAULT clear delay after FAULT-Signal (TFLTCLR)", 12 VSS (power) "Logic ground", 13 COM "Low side gate driver reference", 14 LO3 (out) "Low side gate driver output", 15 LO2 (out) "Low side gate driver output", 16 LO1 (out) "Low side gate driver output", 17 NC "Not connected", 18 VS3 (power) "High side negative power supply", 19 HO3 (out) "High side gate driver output", 20 VB3 (power) "High side positive power supply", 21 NC "Not connected", 22 VS2 (power) "High side negative power supply", 23 HO2 (out) "High side gate driver output", 24 VB2 (power) "High side positive power supply", 25 NC "Not connected", 26 VS1 (power) "High side negative power supply", 27 HO1 (out) "High side gate driver output", 28 VB1 (power) "High side positive power supply"

## 6ED003L06-F2
designator U?
3 Phase 600 V Gate Drive IC, PG-DSO-28-1, Reel, Green; Manufacturer: Infineon; PartNumber: 6ED003L06-F2; Fault Reporting: ITRIP; Green: TRUE; Shutdown/Enable: EN; Tj (max): 125 degC; Topology: 3-Phase; Turn On Propagation Delay (max): 800 ns; UVLO_ON_max: 12.5 V; DatasheetVersion: Rev. 2.5; PackageVersion: V13, 05/2011; PackageReference: PG-DSO-28-1; PackageDescription: 28-Pin Plastic (Green) Dual Small Outline Package, 17.9 x 7.5 mm Body, 1.27 mm Pitch; Supplier 1: Mouser; Supplier Part Number 1: N/A; Halogen-free: TRUE; Mounting Technology: Surface Mount; ComponentLink1Description: Manufacturer URL; ComponentLink1URL: http://www.infineon.com/; ComponentLink2Description: Datasheet; ComponentLink2URL: http://www.infineon.com/dgdl/6ED-F2-DB-Rev2_5.pdf?folderId=db3a30431a5c32f2011a77fa27a86cb5&fileId=db3a3043315daf4401316108306d4190; ComponentLink3Description: Package Specification; ComponentLink3URL: http://www.infineon.com/dgdl/TLE7242-2G-Data-Sheet_11.pdf?folderId=db3a30431400ef68011421b54e2e0564&fileId=db3a30431ed1d7b2011eee8d146f5480&sId=db3a30443d67b5ca013d800a7dd52c12
footprint INF-PG-DSO-28-1_N (SOP, 28-Leads, Body 17.9x7.5mm, Pitch 1.27mm, IPC Medium Density)
footprint INF-PG-DSO-28-1_L (SOP, 28-Leads, Body 17.9x7.5mm, Pitch 1.27mm, IPC High Density)
footprint INF-PG-DSO-28-1_M (SOP, 28-Leads, Body 17.9x7.5mm, Pitch 1.27mm, IPC Low Density)
pins: 1 VCC (power) "Low side power supply", 2 ~{HIN1} (in) "High side logic input", 3 ~{HIN2} (in) "High side logic input", 4 ~{HIN3} (in) "High side logic input", 5 ~{LIN1} (in) "Low side logic input", 6 ~{LIN2} (in) "Low side logic input", 7 ~{LIN3} (in) "Low side logic input", 8 ~{FAULT} (hiz) "Indicates over-current and under-voltage (negative logic, open-drain output)", 9 ITRIP (in) "Analog input for over-current shut down, activates FAULT and RCIN to VSS", 10 EN (in) "Enable I/O functionality (positive logic)", 11 RCIN (io) "External RC-network to define FAULT clear delay after FAULT-Signal (TFLTCLR)", 12 VSS (power) "Logic ground", 13 COM "Low side gate driver reference", 14 LO3 (out) "Low side gate driver output", 15 LO2 (out) "Low side gate driver output", 16 LO1 (out) "Low side gate driver output", 17 NC "Not connected", 18 VS3 (power) "High side negative power supply", 19 HO3 (out) "High side gate driver output", 20 VB3 (power) "High side positive power supply", 21 NC "Not connected", 22 VS2 (power) "High side negative power supply", 23 HO2 (out) "High side gate driver output", 24 VB2 (power) "High side positive power supply", 25 NC "Not connected", 26 VS1 (power) "High side negative power supply", 27 HO1 (out) "High side gate driver output", 28 VB1 (power) "High side positive power supply"

## 6EDL04I06NT
designator U?
3 Phase 600 V Gate Drive IC, PG-DSO-28-1, Reel, Green; Manufacturer: Infineon; PartNumber: 6EDL04I06NT; Fault Reporting: ITRIP; Green: TRUE; Shutdown/Enable: EN; Tj (max): 125 degC; Topology: 3-Phase; Turn On Propagation Delay (max): 800 ns; UVLO_ON_max: 12.5 V; DatasheetVersion: Rev. 2.2; PackageVersion: V13, 05/2011; PackageReference: PG-DSO-28-1; PackageDescription: 28-Pin Plastic (Green) Dual Small Outline Package, 17.9 x 7.5 mm Body, 1.27 mm Pitch; Halogen-free: TRUE; Mounting Technology: Surface Mount; ComponentLink1Description: Manufacturer URL; ComponentLink1URL: http://www.infineon.com/; ComponentLink2Description: Datasheet; ComponentLink2URL: http://www.infineon.com/dgdl/6ED2-DB-Rev2_2.pdf?folderId=db3a30431a5c32f2011a77fa27a86cb5&fileId=db3a304336797ff901367c18c18445af; ComponentLink3Description: Package Specification; ComponentLink3URL: http://www.infineon.com/dgdl/TLE7242-2G-Data-Sheet_11.pdf?folderId=db3a30431400ef68011421b54e2e0564&fileId=db3a30431ed1d7b2011eee8d146f5480&sId=db3a30443d67b5ca013d800a7dd52c12
footprint INF-PG-DSO-28-1_N (SOP, 28-Leads, Body 17.9x7.5mm, Pitch 1.27mm, IPC Medium Density)
footprint INF-PG-DSO-28-1_L (SOP, 28-Leads, Body 17.9x7.5mm, Pitch 1.27mm, IPC High Density)
footprint INF-PG-DSO-28-1_M (SOP, 28-Leads, Body 17.9x7.5mm, Pitch 1.27mm, IPC Low Density)
pins: 1 VCC (power) "Low side power supply", 2 HIN1 (in) "High side logic input", 3 HIN2 (in) "High side logic input", 4 HIN3 (in) "High side logic input", 5 LIN1 (in) "Low side logic input", 6 LIN2 (in) "Low side logic input", 7 LIN3 (in) "Low side logic input", 8 ~{FAULT} (hiz) "Indicates over-current and under-voltage (negative logic, open-drain output)", 9 ITRIP (in) "Analog input for over-current shut down, activates FAULT and RCIN to VSS", 10 EN (in) "Enable I/O functionality (positive logic)", 11 RCIN (io) "External RC-network to define FAULT clear delay after FAULT-Signal (TFLTCLR)", 12 VSS (power) "Logic ground", 13 COM "Low side gate driver reference", 14 LO3 (out) "Low side gate driver output", 15 LO2 (out) "Low side gate driver output", 16 LO1 (out) "Low side gate driver output", 17 NC "Not connected", 18 VS3 (power) "High side negative power supply", 19 HO3 (out) "High side gate driver output", 20 VB3 (power) "High side positive power supply", 21 NC "Not connected", 22 VS2 (power) "High side negative power supply", 23 HO2 (out) "High side gate driver output", 24 VB2 (power) "High side positive power supply", 25 NC "Not connected", 26 VS1 (power) "High side negative power supply", 27 HO1 (out) "High side gate driver output", 28 VB1 (power) "High side positive power supply"

## 6EDL04I06PT
designator U?
3 Phase 600 V Gate Drive IC, PG-DSO-28-1, Reel, Green; Manufacturer: Infineon; PartNumber: 6EDL04I06PT; Fault Reporting: ITRIP; Green: TRUE; Shutdown/Enable: EN; Tj (max): 125 degC; Topology: 3-Phase; Turn On Propagation Delay (max): 800 ns; UVLO_ON_max: 12.5 V; DatasheetVersion: Rev. 2.2; PackageVersion: V13, 05/2011; PackageReference: PG-DSO-28-1; PackageDescription: 28-Pin Plastic (Green) Dual Small Outline Package, 17.9 x 7.5 mm Body, 1.27 mm Pitch; Halogen-free: TRUE; Mounting Technology: Surface Mount; ComponentLink1Description: Manufacturer URL; ComponentLink1URL: http://www.infineon.com/; ComponentLink2Description: Datasheet; ComponentLink2URL: http://www.infineon.com/dgdl/6ED2-DB-Rev2_2.pdf?folderId=db3a30431a5c32f2011a77fa27a86cb5&fileId=db3a304336797ff901367c18c18445af; ComponentLink3Description: Package Specification; ComponentLink3URL: http://www.infineon.com/dgdl/TLE7242-2G-Data-Sheet_11.pdf?folderId=db3a30431400ef68011421b54e2e0564&fileId=db3a30431ed1d7b2011eee8d146f5480&sId=db3a30443d67b5ca013d800a7dd52c12
footprint INF-PG-DSO-28-1_N (SOP, 28-Leads, Body 17.9x7.5mm, Pitch 1.27mm, IPC Medium Density)
footprint INF-PG-DSO-28-1_L (SOP, 28-Leads, Body 17.9x7.5mm, Pitch 1.27mm, IPC High Density)
footprint INF-PG-DSO-28-1_M (SOP, 28-Leads, Body 17.9x7.5mm, Pitch 1.27mm, IPC Low Density)
pins: 1 VCC (power) "Low side power supply", 2 HIN1 (in) "High side logic input (positive or negative logic according to Table 1", 3 HIN2 (in) "High side logic input (positive or negative logic according to Table 1", 4 HIN3 (in) "High side logic input (positive or negative logic according to Table 1", 5 LIN1 (in) "Low side logic input (positive or negative logic according to Table 1", 6 LIN2 (in) "Low side logic input (positive or negative logic according to Table 1", 7 LIN3 (in) "Low side logic input (positive or negative logic according to Table 1", 8 ~{FAULT} (hiz) "Indicates over-current and under-voltage (negative logic, open-drain output)", 9 ITRIP (in) "Analog input for over-current shut down, activates FAULT and RCIN to VSS", 10 EN (in) "Enable I/O functionality (positive logic)", 11 RCIN (io) "External RC-network to define FAULT clear delay after FAULT-Signal (TFLTCLR)", 12 VSS (power) "Logic ground", 13 COM "Low side gate driver reference", 14 LO3 (out) "Low side gate driver output", 15 LO2 (out) "Low side gate driver output", 16 LO1 (out) "Low side gate driver output", 17 NC "Not connected", 18 VS3 (power) "High side negative power supply", 19 HO3 (out) "High side gate driver output", 20 VB3 (power) "High side positive power supply", 21 NC "Not connected", 22 VS2 (power) "High side negative power supply", 23 HO2 (out) "High side gate driver output", 24 VB2 (power) "High side positive power supply", 25 NC "Not connected", 26 VS1 (power) "High side negative power supply", 27 HO1 (out) "High side gate driver output", 28 VB1 (power) "High side positive power supply"

## 6EDL04N02PR
designator U?
3 Phase 600 V Gate Drive IC, PG-TSSOP-28-1, Reel, Green; Manufacturer: Infineon; PartNumber: 6EDL04N02PR; Fault Reporting: ITRIP; Green: TRUE; Shutdown/Enable: EN; Tj (max): 125 degC; Topology: 3-Phase; Turn On Propagation Delay (max): 800 ns; UVLO_ON_max: 9.8 V; DatasheetVersion: Rev. 2.2; PackageVersion: V1.4, 10/2011; PackageReference: PG-TSSOP-28-1; PackageDescription: 28-Pin Plastic (Green) Thin Shrink Small Outline Package, Body 9.7 x 4.4 mm, Pitch 0.65 mm; Halogen-free: TRUE; Mounting Technology: Surface Mount; ComponentLink1Description: Manufacturer URL; ComponentLink1URL: http://www.infineon.com/; ComponentLink2Description: Datasheet; ComponentLink2URL: http://www.infineon.com/dgdl/6ED2-DB-Rev2_2.pdf?folderId=db3a30431a5c32f2011a77fa27a86cb5&fileId=db3a304336797ff901367c18c18445af; ComponentLink3Description: Package Specification; ComponentLink3URL: http://www.infineon.com/dgdl/XC835_XC836_ds_v1.4.pdf?folderId=db3a304412b407950112b40c497b0af6&fileId=db3a30432ba3fa6f012baa1500492fd3&sId=db3a30433d956bc3013da0b5e6e22d1b
footprint INF-PG-TSSOP-28-1_N (SOP, 28-Leads, Body 9.7x4.4mm, Pitch 0.65mm, IPC Medium Density)
footprint INF-PG-TSSOP-28-1_L (SOP, 28-Leads, Body 9.7x4.4mm, Pitch 0.65mm, IPC High Density)
footprint INF-PG-TSSOP-28-1_M (SOP, 28-Leads, Body 9.7x4.4mm, Pitch 0.65mm, IPC Low Density)
pins: 1 VCC (power) "Low side power supply", 2 HIN1 (in) "High side logic input", 3 HIN2 (in) "High side logic input", 4 HIN3 (in) "High side logic input", 5 LIN1 (in) "Low side logic input", 6 LIN2 (in) "Low side logic input", 7 LIN3 (in) "Low side logic input", 8 ~{FAULT} (hiz) "Indicates over-current and under-voltage (negative logic, open-drain output)", 9 ITRIP (in) "Analog input for over-current shut down, activates FAULT and RCIN to VSS", 10 EN (in) "Enable I/O functionality (positive logic)", 11 RCIN (io) "External RC-network to define FAULT clear delay after FAULT-Signal (TFLTCLR)", 12 VSS (power) "Logic ground", 13 COM "Low side gate driver reference", 14 LO3 (out) "Low side gate driver output", 15 LO2 (out) "Low side gate driver output", 16 LO1 (out) "Low side gate driver output", 17 NC "Not connected", 18 VS3 (power) "High side negative power supply", 19 HO3 (out) "High side gate driver output", 20 VB3 (power) "High side positive power supply", 21 NC "Not connected", 22 VS2 (power) "High side negative power supply", 23 HO2 (out) "High side gate driver output", 24 VB2 (power) "High side positive power supply", 25 NC "Not connected", 26 VS1 (power) "High side negative power supply", 27 HO1 (out) "High side gate driver output", 28 VB1 (power) "High side positive power supply"